# Altium schematic symbol library chips.SchLib: 12 symbols
Pins are listed as number, name and electrical type; pins without a type are passive.

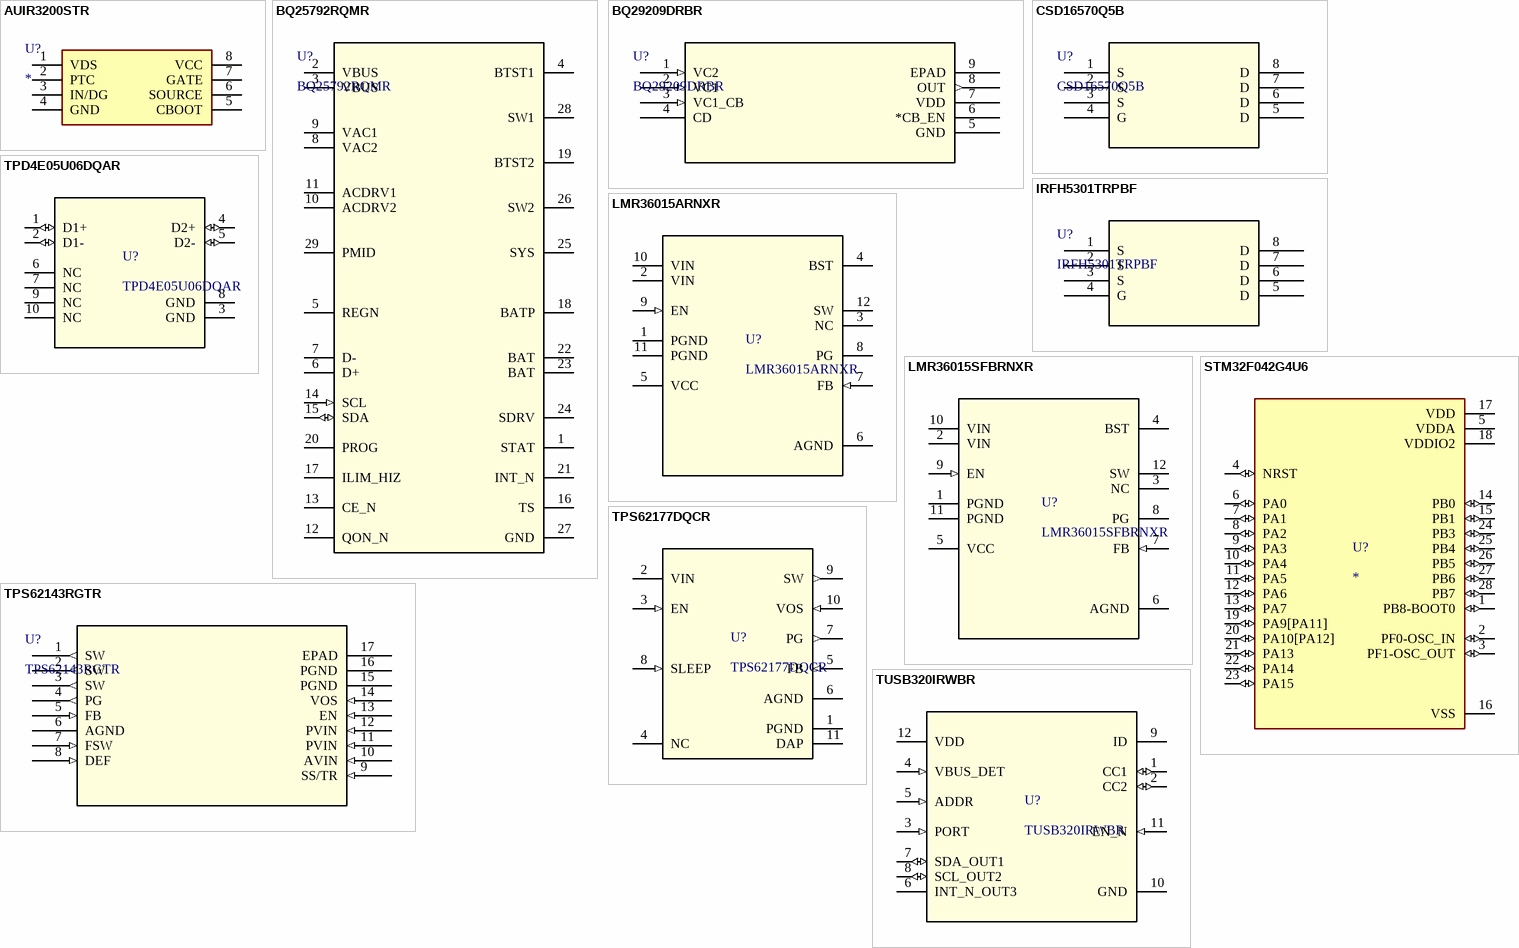
[diagram p0: symbols AUIR3200STR to TUSB320IRWBR]

## AUIR3200STR
designator U?
High side mosfet driver for very low Rdson automotive application with over-current, over-temperature protection and diagnostic.; Manufacturer: Infineon Technologies; Part Number: AUIR3200STR; Datasheet Link: https://componentsearchengine.com/Datasheets/2/AUIR3200STR.pdf; Height: 1.75mm; ComponentLink1Description: Manufacturer_link; ComponentLink1URL: https://www.infineon.com/cms/en/product/power/gate-driver-ics/auir3200s/; LCSC Part Number: C97698
footprint SOIC127P600X175-8N
pins: 1 VDS, 2 PTC, 3 IN/DG, 4 GND, 5 CBOOT, 6 SOURCE, 7 GATE, 8 VCC

## BQ25792RQMR
designator U?
I2C controlled, 5-A, 1-4 cell buck-boost charger with dual-input selector and USB PD 3.0 OTG output; Manufacturer: Texas Instruments; Type: DEV; RefDes: RefDes; Copyright: Copyright (C) 2022 Ultra Librarian. All rights reserved.; Part Number: BQ25792RQMR; ComponentLink1Description: Manufacturer_link; ComponentLink1URL: https://www.ti.com/product/BQ25792; LCSC Part Number: C2862876
footprint RQM0029A-MFG
pins: 1 STAT, 2 VBUS (power), 3 VBUS (power), 4 BTST1, 5 REGN, 6 D+, 7 D-, 8 VAC2 (power), 9 VAC1 (power), 10 ACDRV2 (power), 11 ACDRV1 (power), 12 QON_N, 13 CE_N, 14 SCL (in), 15 SDA (io), 16 TS, 17 ILIM_HIZ, 18 BATP, 19 BTST2, 20 PROG, 21 INT_N, 22 BAT, 23 BAT, 24 SDRV, 25 SYS, 26 SW2, 27 GND (power), 28 SW1, 29 PMID

## BQ29209DRBR
designator U?
Voltage Protection with Automatic Cell Balance For 2-Cell Li-Ion Batteries, OVP=4.30V; Manufacturer: Texas Instruments; Copyright: Copyright (C) 2022 Ultra Librarian. All rights reserved.; Part Number: BQ29209DRBR; RefDes: RefDes; Type: DEV; ComponentLink1Description: Manufacturer_link; ComponentLink1URL: https://www.ti.com/store/ti/en/p/product/?p=BQ29209DRBR; LCSC Part Number: C139352
footprint DRB8_1P6X2P4
pins: 1 VC2 (in), 2 VC1 (in), 3 VC1_CB (in), 4 CD, 5 GND (power), 6 *CB_EN, 7 VDD (power), 8 OUT (out), 9 EPAD (power)

## CSD16570Q5B
designator U?
25-V, N channel NexFET™ power MOSFET, single SON 5 mm x 6 mm, 0.82 mOhm; Manufacturer: Texas Instruments; Copyright: Copyright (C) 2022 Ultra Librarian. All rights reserved.; Part Number: CSD16570Q5B; RefDes: RefDes; Type: DEV; ComponentLink1Description: Manufacturer_link; ComponentLink1URL: https://www.ti.com/store/ti/en/p/product/?p=CSD16570Q5B; LCSC Part Number: C473359
footprint DNK8
pins: 1 S, 2 S, 3 S, 4 G, 5 D, 6 D, 7 D, 8 D

## IRFH5301TRPBF
designator U?
30V Single N-Channel StrongIRFET™ Power MOSFET in a PQFN 5X6 package. (<1.85m; Manufacturer: Infineon Technologies; Part Number: IRFH5301TRPBF; RefDes: RefDes; Type: DEV; ComponentLink1Description: Manufacturer_link; ComponentLink1URL: https://www.infineon.com/cms/en/product/power/mosfet/n-channel/irfh5301/?redirId=148229
footprint DNK8
pins: 1 S, 2 S, 3 S, 4 G, 5 D, 6 D, 7 D, 8 D

## LMR36015ARNXR
designator U?
4.2-V to 60-V, 1.5-A ultra-small synchronous step-down converter; Manufacturer: Texas Instruments; Type: DEV; RefDes: RefDes; Copyright: Copyright (C) 2022 Ultra Librarian. All rights reserved.; Part Number: LMR36015ARNXR; ComponentLink1Description: Manufacturer_link; ComponentLink1URL: https://www.ti.com/store/ti/en/p/product/?p=LMR36015ARNXR
footprint RNX0012B
pins: 1 PGND (power), 2 VIN (power), 3 NC, 4 BST, 5 VCC (power), 6 AGND (power), 7 FB (in), 8 PG (oc), 9 EN (in), 10 VIN (power), 11 PGND (power), 12 SW (power)

## LMR36015SFBRNXR
designator U?
4.2-V to 60-V, 1.5-A ultra-small synchronous step-down converter with extended temperature; Manufacturer: Texas Instruments; Type: DEV; RefDes: RefDes; Copyright: Copyright (C) 2022 Ultra Librarian. All rights reserved.; Part Number: LMR36015SFBRNXR; ComponentLink1Description: Manufacturer_link; ComponentLink1URL: https://www.ti.com/store/ti/en/p/product/?p=LMR36015SFBRNXR
footprint RNX0012B
pins: 1 PGND (power), 2 VIN (power), 3 NC, 4 BST, 5 VCC (power), 6 AGND (power), 7 FB (in), 8 PG (oc), 9 EN (in), 10 VIN (power), 11 PGND (power), 12 SW (power)

## STM32F042G4U6
designator U?
ARM® Cortex®-M0 STM32F0 Microcontroller IC 32-Bit 48MHz 32KB (32K x 8) FLASH 28-UFQFPN (4x4); Manufacturer: STMicroelectronics; Part Number: STM32F042G4U6; Package: None; Price: None; Value: *; Availability: Unavailable; LCSC Part Number: C88048
footprint IC_STM32F042G4U6TR
pins: 1 PB8-BOOT0 (io), 2 PF0-OSC_IN (io), 3 PF1-OSC_OUT (io), 4 NRST (io), 5 VDDA (power), 6 PA0 (io), 7 PA1 (io), 8 PA2 (io), 9 PA3 (io), 10 PA4 (io), 11 PA5 (io), 12 PA6 (io), 13 PA7 (io), 14 PB0 (io), 15 PB1 (io), 16 VSS (power), 17 VDD (power), 18 VDDIO2 (power), 19 PA9[PA11] (io), 20 PA10[PA12] (io), 21 PA13 (io), 22 PA14 (io), 23 PA15 (io), 24 PB3 (io), 25 PB4 (io), 26 PB5 (io), 27 PB6 (io), 28 PB7 (io)

## TPD4E05U06DQAR
designator U?
Quad 0.5-pF, 5.5-V, ±12-kV ESD protection diode for USB,  HDMI & High Speed Interfaces; Manufacturer: Texas Instruments; CompType: IC; Type: DEV; RefDes: RefDes; Copyright: Copyright (C) 2022 Ultra Librarian. All rights reserved.; Application_BuildNumber: *; Part Number: TPD4E05U06DQAR; PackageReference: DQA0010A; MountType: SMT; RoHS: Y; ComponentLink1Description: Manufacturer_link; ComponentLink1URL: https://www.ti.com/store/ti/en/p/product/?p=TPD4E05U06DQAR; LCSC Part Number: C138714
footprint DQA0010A
pins: 1 D1+ (io), 2 D1- (io), 3 GND (power), 4 D2+ (io), 5 D2- (io), 6 NC, 7 NC, 8 GND (power), 9 NC, 10 NC

## TPS62143RGTR
designator U?
3–17V 2A Step-Down Converter in 3x3 QFN package; Manufacturer: Texas Instruments; Copyright: Copyright (C) 2022 Ultra Librarian. All rights reserved.; Part Number: TPS62143RGTR; RefDes: RefDes; Type: DEV; ComponentLink1Description: Manufacturer_link; ComponentLink1URL: https://www.ti.com/store/ti/en/p/product/?p=TPS62143RGTR
footprint RGT16_1P7X1P7
pins: 1 SW (out), 2 SW (out), 3 SW (out), 4 PG (out), 5 FB (in), 6 AGND (power), 7 FSW (in), 8 DEF (in), 9 SS/TR (in), 10 AVIN (in), 11 PVIN (in), 12 PVIN (in), 13 EN (in), 14 VOS (in), 15 PGND (power), 16 PGND (power), 17 EPAD

## TPS62177DQCR
designator U?
28V, 0.5A Step-Down Converter with SNOOZE Mode; Manufacturer: Texas Instruments; Type: DEV; RefDes: RefDes; Copyright: Copyright (C) 2022 Ultra Librarian. All rights reserved.; Part Number: TPS62177DQCR; ComponentLink1Description: Manufacturer_link; ComponentLink1URL: https://www.ti.com/store/ti/en/p/product/?p=TPS62177DQCR; LCSC Part Number: C91241
footprint DQC0010A
pins: 1 PGND (power), 2 VIN (power), 3 EN (in), 4 NC, 5 FB (in), 6 AGND (power), 7 PG (out), 8 SLEEP (in), 9 SW (out), 10 VOS (in), 11 DAP (power)

## TUSB320IRWBR
designator U?
USB Type-C configuration channel logic and port control; Manufacturer: Texas Instruments; Type: DEV; RefDes: RefDes; Copyright: Copyright (C) 2022 Ultra Librarian. All rights reserved.; Part Number: TUSB320IRWBR; ComponentLink1Description: Manufacturer_link; ComponentLink1URL: https://www.ti.com/store/ti/en/p/product/?p=TUSB320IRWBR; LCSC Part Number: C80170
footprint RWB0012A
pins: 1 CC1 (io), 2 CC2 (io), 3 PORT (in), 4 VBUS_DET (in), 5 ADDR (in), 6 INT_N_OUT3 (oc), 7 SDA_OUT1 (io), 8 SCL_OUT2 (io), 9 ID (oc), 10 GND (power), 11 EN_N (in), 12 VDD (power)